# Altium schematic symbol library PESD2CANFD24V-TR.SchLib: 1 symbol
Pins are listed as number, name and electrical type; pins without a type are passive.

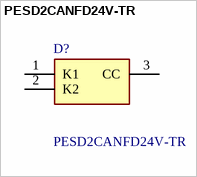
[diagram p0: symbol PESD2CANFD24V-TR]

## PESD2CANFD24V-TR
designator D?
ESD Suppressors / TVS Diodes DIODE ESD PROT; Manufacturer_Name: Nexperia; Geometry.Height: 1.1mm; Manufacturer_Part_Number: PESD2CANFD24V-TR; Mouser Part Number: 771-PESD2CANFD24V-TR; Mouser Price/Stock: https://www.mouser.co.uk/ProductDetail/Nexperia/PESD2CANFD24V-TR?qs=xZ%2FP%252Ba9zWqbW0qDIUI%252BQ%2FA%3D%3D; Arrow Part Number: PESD2CANFD24V-TR; Arrow Price/Stock: https://www.arrow.com/en/products/pesd2canfd24v-tr/nexperia?utm_currency=USD&region=nac; Datasheet Link: https://assets.nexperia.com/documents/data-sheet/PESD2CANFD24V-T.pdf
footprint SOT95P230X110-3N
pins: 1 K1, 2 K2, 3 CC